# EAGLE library part LT3065 (library Public)
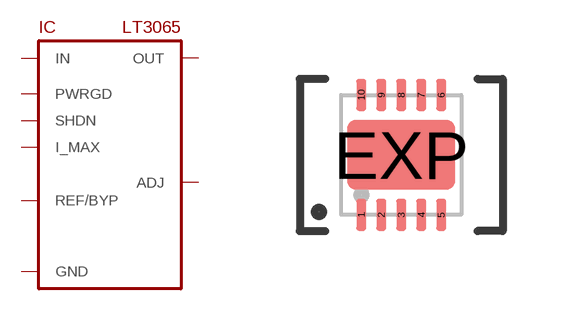
[diagram p141: symbol with the pads of DFN10_3X3; footprint DFN10_3X3]

Designator prefix IC

## LT3065  [DFN10_3X3]
1  IN
2  IN
3  SHDN
4  PWRGD
5  I_MAX
6  REF/BYP
7  GND
8  ADJ
9  OUT
10  OUT
EXP  GND

## Footprint DFN10_3X3 (pad centres in mm)
smd 0.25 x 0.8: 1 -1,-1.5; 2 -0.5,-1.5; 3 0,-1.5; 4 0.5,-1.5; 5 1,-1.5; 6 1,1.5; 7 0.5,1.5; 8 0,1.5; 9 -0.5,1.5; 10 -1,1.5
smd 2.7 x 1.75: EXP 0,0